# Altium integrated library Analog Devices Switches and Multiplexers Analog Switches.IntLib: 575 symbols (part 2 of 23)
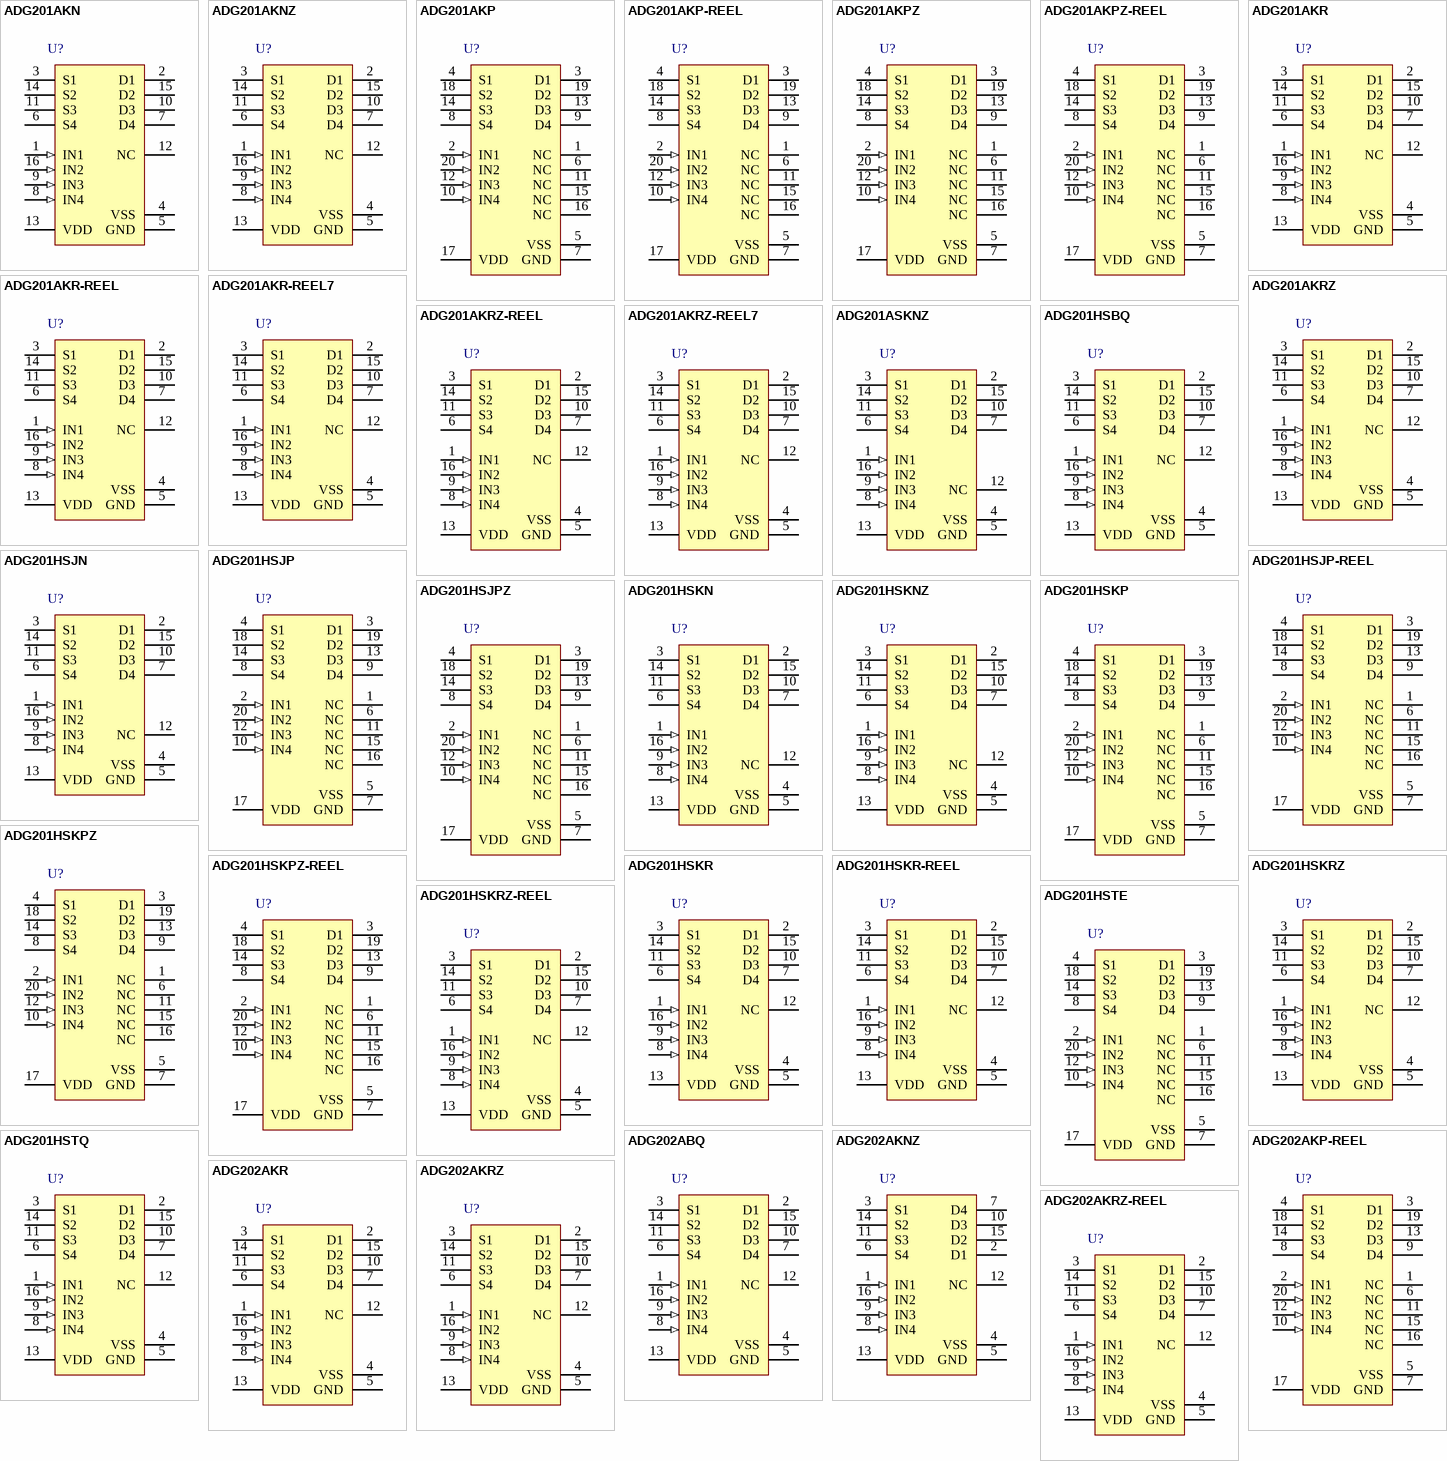
[diagram p16: symbols ADG201AKN to ADG202AKRZ-REEL]

## ADG201AKP-REEL
designator U?
LC2MOS Quad SPST Switches, 60 Ohm Ron, 20-pin LCC (P-20A), Reel; Manufacturer: Analog Devices; PartNumber: ADG201AKP-REEL; # Sw Functions: 4; Max Neg Supply: -15V; Max Pos Supply: +15V; Ron (ohms): 60; DatasheetVersion: Rev. A; PackageVersion: Nov-02; PackageReference: P-20A; PackageDescription: 20-Pin Plastic Leaded Chip Carrier, Body 8.97 x 8.97 mm, Pitch 1.27 mm; Configuration: SPST; Packing: Reel; Mounting Technology: Surface Mount; Code_JEDEC: MO-047AA; ComponentLink1Description: Manufacturer URL; ComponentLink1URL: http://www.analog.com/en/index.html; ComponentLink2Description: Datasheet; ComponentLink2URL: http://www.analog.com/static/imported-files/data_sheets/ADG201A_202A.pdf; ComponentLink3Description: Package Specification; ComponentLink3URL: http://www.analog.com/static/imported-files/packages/3121431516544404277643669223804694P20A.pdf
footprint ADI-P-20A_N (PLCC, 20-Leads, Body 8.965x8.965mm, Pitch 1.27mm, IPC Medium Density)
footprint ADI-P-20A_L (PLCC, 20-Leads, Body 8.965x8.965mm, Pitch 1.27mm, IPC High Density)
footprint ADI-P-20A_M (PLCC, 20-Leads, Body 8.965x8.965mm, Pitch 1.27mm, IPC Low Density)
pins: 1 NC, 2 IN1 (in), 3 D1, 4 S1, 5 VSS (power) "Most negative voltage supply", 6 NC, 7 GND (power), 8 S4, 9 D4, 10 IN4 (in), 11 NC, 12 IN3 (in), 13 D3, 14 S3, 15 NC, 16 NC, 17 VDD (power) "Most positive voltage supply", 18 S2, 19 D2, 20 IN2 (in)

## ADG201AKPZ
designator U?
LC2MOS Quad SPST Switches, 60 Ohm Ron, 20-pin LCC (P-20A), Tube; Manufacturer: Analog Devices; PartNumber: ADG201AKPZ; # Sw Functions: 4; Max Neg Supply: -15V; Max Pos Supply: +15V; Ron (ohms): 60; DatasheetVersion: Rev. A; PackageVersion: Nov-02; PackageReference: P-20A; PackageDescription: 20-Pin Plastic Leaded Chip Carrier, Body 8.97 x 8.97 mm, Pitch 1.27 mm; Supplier 1: Digi-Key; Supplier Part Number 1: ADG201AKPZ-ND; Supplier 2: Newark; Supplier Part Number 2: 59K1168; Supplier 3: Mouser; Supplier Part Number 3: 584-ADG201AKPZ; Configuration: SPST; Packing: Tube; Mounting Technology: Surface Mount; Code_JEDEC: MO-047AA; ComponentLink1Description: Manufacturer URL; ComponentLink1URL: http://www.analog.com/en/index.html; ComponentLink2Description: Datasheet; ComponentLink2URL: http://www.analog.com/static/imported-files/data_sheets/ADG201A_202A.pdf; ComponentLink3Description: Package Specification; ComponentLink3URL: http://www.analog.com/static/imported-files/packages/3121431516544404277643669223804694P20A.pdf
footprint ADI-P-20A_N (PLCC, 20-Leads, Body 8.965x8.965mm, Pitch 1.27mm, IPC Medium Density)
footprint ADI-P-20A_L (PLCC, 20-Leads, Body 8.965x8.965mm, Pitch 1.27mm, IPC High Density)
footprint ADI-P-20A_M (PLCC, 20-Leads, Body 8.965x8.965mm, Pitch 1.27mm, IPC Low Density)
pins: 1 NC, 2 IN1 (in), 3 D1, 4 S1, 5 VSS (power) "Most negative voltage supply", 6 NC, 7 GND (power), 8 S4, 9 D4, 10 IN4 (in), 11 NC, 12 IN3 (in), 13 D3, 14 S3, 15 NC, 16 NC, 17 VDD (power) "Most positive voltage supply", 18 S2, 19 D2, 20 IN2 (in)

## ADG201AKPZ-REEL
designator U?
LC2MOS Quad SPST Switches, 60 Ohm Ron, 20-pin LCC (P-20A), Reel; Manufacturer: Analog Devices; PartNumber: ADG201AKPZ-REEL; # Sw Functions: 4; Max Neg Supply: -15V; Max Pos Supply: +15V; Ron (ohms): 60; DatasheetVersion: Rev. A; PackageVersion: Nov-02; PackageReference: P-20A; PackageDescription: 20-Pin Plastic Leaded Chip Carrier, Body 8.97 x 8.97 mm, Pitch 1.27 mm; Supplier 1: Digi-Key; Supplier Part Number 1: ADG201AKPZ-REEL-ND; Supplier 2: Mouser; Supplier Part Number 2: 584-ADG201AKPZ-R; Configuration: SPST; Packing: Reel; Mounting Technology: Surface Mount; Code_JEDEC: MO-047AA; ComponentLink1Description: Manufacturer URL; ComponentLink1URL: http://www.analog.com/en/index.html; ComponentLink2Description: Datasheet; ComponentLink2URL: http://www.analog.com/static/imported-files/data_sheets/ADG201A_202A.pdf; ComponentLink3Description: Package Specification; ComponentLink3URL: http://www.analog.com/static/imported-files/packages/3121431516544404277643669223804694P20A.pdf
footprint ADI-P-20A_N (PLCC, 20-Leads, Body 8.965x8.965mm, Pitch 1.27mm, IPC Medium Density)
footprint ADI-P-20A_L (PLCC, 20-Leads, Body 8.965x8.965mm, Pitch 1.27mm, IPC High Density)
footprint ADI-P-20A_M (PLCC, 20-Leads, Body 8.965x8.965mm, Pitch 1.27mm, IPC Low Density)
pins: 1 NC, 2 IN1 (in), 3 D1, 4 S1, 5 VSS (power) "Most negative voltage supply", 6 NC, 7 GND (power), 8 S4, 9 D4, 10 IN4 (in), 11 NC, 12 IN3 (in), 13 D3, 14 S3, 15 NC, 16 NC, 17 VDD (power) "Most positive voltage supply", 18 S2, 19 D2, 20 IN2 (in)

## ADG201AKR
designator U?
LC2MOS Quad SPST Switches, 60 Ohm Ron, 16-pin SOIC (R-16), Tube; Manufacturer: Analog Devices; PartNumber: ADG201AKR; # Sw Functions: 4; Max Neg Supply: -15V; Max Pos Supply: +15V; Ron (ohms): 60; DatasheetVersion: Rev. A; PackageVersion: 060606-A, 06/2006; PackageReference: R-16; PackageDescription: 16-Pin Standard Small Outline Package, Body 9.9 x 3.9 mm, Pitch 1.27 mm; Supplier 1: Digi-Key; Supplier Part Number 1: ADG201AKR-ND; Supplier 2: Mouser; Supplier Part Number 2: 584-ADG201AKR; Configuration: SPST; Packing: Tube; Mounting Technology: Surface Mount; Code_JEDEC: MS-012-AC; ComponentLink1Description: Manufacturer URL; ComponentLink1URL: http://www.analog.com/en/index.html; ComponentLink2Description: Datasheet; ComponentLink2URL: http://www.analog.com/static/imported-files/data_sheets/ADG201A_202A.pdf; ComponentLink3Description: Package Specification; ComponentLink3URL: http://www.analog.com/static/imported-files/packages/PKG_PDF/SOIC_Narrow%20(R)/R_16.pdf
footprint ADI-R-16_N (SOIC, 16-Leads, Body 9.9x3.9mm, Pitch 1.27mm, IPC Medium Density)
footprint ADI-R-16_L (SOIC, 16-Leads, Body 9.9x3.9mm, Pitch 1.27mm, IPC High Density)
footprint ADI-R-16_M (SOIC, 16-Leads, Body 9.9x3.9mm, Pitch 1.27mm, IPC Low Density)
pins: 1 IN1 (in), 2 D1, 3 S1, 4 VSS (power), 5 GND (power), 6 S4, 7 D4, 8 IN4 (in), 9 IN3 (in), 10 D3, 11 S3, 12 NC, 13 VDD (power), 14 S2, 15 D2, 16 IN2 (in)

## ADG201AKR-REEL
designator U?
LC2MOS Quad SPST Switches, 60 Ohm Ron, 16-pin SOIC (R-16), Reel; Manufacturer: Analog Devices; PartNumber: ADG201AKR-REEL; # Sw Functions: 4; Max Neg Supply: -15V; Max Pos Supply: +15V; Ron (ohms): 60; DatasheetVersion: Rev. A; PackageVersion: 060606-A, 06/2006; PackageReference: R-16; PackageDescription: 16-Pin Standard Small Outline Package, Body 9.9 x 3.9 mm, Pitch 1.27 mm; Supplier 1: Digi-Key; Supplier Part Number 1: ADG201AKR-REEL-ND; Supplier 2: Newark; Supplier Part Number 2: 09B6995; Supplier 3: Mouser; Supplier Part Number 3: 584-ADG201AKR-R; Configuration: SPST; Packing: Reel; Mounting Technology: Surface Mount; Code_JEDEC: MS-012-AC; ComponentLink1Description: Manufacturer URL; ComponentLink1URL: http://www.analog.com/en/index.html; ComponentLink2Description: Datasheet; ComponentLink2URL: http://www.analog.com/static/imported-files/data_sheets/ADG201A_202A.pdf; ComponentLink3Description: Package Specification; ComponentLink3URL: http://www.analog.com/static/imported-files/packages/PKG_PDF/SOIC_Narrow%20(R)/R_16.pdf
footprint ADI-R-16_N (SOIC, 16-Leads, Body 9.9x3.9mm, Pitch 1.27mm, IPC Medium Density)
footprint ADI-R-16_L (SOIC, 16-Leads, Body 9.9x3.9mm, Pitch 1.27mm, IPC High Density)
footprint ADI-R-16_M (SOIC, 16-Leads, Body 9.9x3.9mm, Pitch 1.27mm, IPC Low Density)
pins: 1 IN1 (in), 2 D1, 3 S1, 4 VSS (power), 5 GND (power), 6 S4, 7 D4, 8 IN4 (in), 9 IN3 (in), 10 D3, 11 S3, 12 NC, 13 VDD (power), 14 S2, 15 D2, 16 IN2 (in)

## ADG201AKR-REEL7
designator U?
LC2MOS Quad SPST Switches, 60 Ohm Ron, 16-pin SOIC (R-16), Reel; Manufacturer: Analog Devices; PartNumber: ADG201AKR-REEL7; # Sw Functions: 4; Max Neg Supply: -15V; Max Pos Supply: +15V; Ron (ohms): 60; DatasheetVersion: Rev. A; PackageVersion: 060606-A, 06/2006; PackageReference: R-16; PackageDescription: 16-Pin Standard Small Outline Package, Body 9.9 x 3.9 mm, Pitch 1.27 mm; Supplier 1: Digi-Key; Supplier Part Number 1: ADG201AKR-REEL7-ND; Supplier 2: Newark; Supplier Part Number 2: 09B6996; Supplier 3: Mouser; Supplier Part Number 3: 584-ADG201AKR-R7; Configuration: SPST; Packing: Reel; Mounting Technology: Surface Mount; Code_JEDEC: MS-012-AC; ComponentLink1Description: Manufacturer URL; ComponentLink1URL: http://www.analog.com/en/index.html; ComponentLink2Description: Datasheet; ComponentLink2URL: http://www.analog.com/static/imported-files/data_sheets/ADG201A_202A.pdf; ComponentLink3Description: Package Specification; ComponentLink3URL: http://www.analog.com/static/imported-files/packages/PKG_PDF/SOIC_Narrow%20(R)/R_16.pdf
footprint ADI-R-16_N (SOIC, 16-Leads, Body 9.9x3.9mm, Pitch 1.27mm, IPC Medium Density)
footprint ADI-R-16_L (SOIC, 16-Leads, Body 9.9x3.9mm, Pitch 1.27mm, IPC High Density)
footprint ADI-R-16_M (SOIC, 16-Leads, Body 9.9x3.9mm, Pitch 1.27mm, IPC Low Density)
pins: 1 IN1 (in), 2 D1, 3 S1, 4 VSS (power), 5 GND (power), 6 S4, 7 D4, 8 IN4 (in), 9 IN3 (in), 10 D3, 11 S3, 12 NC, 13 VDD (power), 14 S2, 15 D2, 16 IN2 (in)

## ADG201AKRZ
designator U?
LC2MOS Quad SPST Switches, 60 Ohm Ron, 16-pin SOIC (R-16), Tube; Manufacturer: Analog Devices; PartNumber: ADG201AKRZ; # Sw Functions: 4; Max Neg Supply: -15V; Max Pos Supply: +15V; Ron (ohms): 60; DatasheetVersion: Rev. A; PackageVersion: 060606-A, 06/2006; PackageReference: R-16; PackageDescription: 16-Pin Standard Small Outline Package, Body 9.9 x 3.9 mm, Pitch 1.27 mm; Supplier 1: Digi-Key; Supplier Part Number 1: ADG201AKRZ-ND; Supplier 2: Farnell; Supplier Part Number 2: 1661015; Supplier 3: Newark; Supplier Part Number 3: 19M8642; Supplier 4: Mouser; Supplier Part Number 4: 584-ADG201AKRZ; Configuration: SPST; Packing: Tube; Mounting Technology: Surface Mount; Code_JEDEC: MS-012-AC; ComponentLink1Description: Manufacturer URL; ComponentLink1URL: http://www.analog.com/en/index.html; ComponentLink2Description: Datasheet; ComponentLink2URL: http://www.analog.com/static/imported-files/data_sheets/ADG201A_202A.pdf; ComponentLink3Description: Package Specification; ComponentLink3URL: http://www.analog.com/static/imported-files/packages/PKG_PDF/SOIC_Narrow%20(R)/R_16.pdf
footprint ADI-R-16_N (SOIC, 16-Leads, Body 9.9x3.9mm, Pitch 1.27mm, IPC Medium Density)
footprint ADI-R-16_L (SOIC, 16-Leads, Body 9.9x3.9mm, Pitch 1.27mm, IPC High Density)
footprint ADI-R-16_M (SOIC, 16-Leads, Body 9.9x3.9mm, Pitch 1.27mm, IPC Low Density)
pins: 1 IN1 (in), 2 D1, 3 S1, 4 VSS (power), 5 GND (power), 6 S4, 7 D4, 8 IN4 (in), 9 IN3 (in), 10 D3, 11 S3, 12 NC, 13 VDD (power), 14 S2, 15 D2, 16 IN2 (in)

## ADG201AKRZ-REEL
designator U?
LC2MOS Quad SPST Switches, 60 Ohm Ron, 16-pin SOIC (R-16), Reel; Manufacturer: Analog Devices; PartNumber: ADG201AKRZ-REEL; # Sw Functions: 4; Max Neg Supply: -15V; Max Pos Supply: +15V; Ron (ohms): 60; DatasheetVersion: Rev. A; PackageVersion: 060606-A, 06/2006; PackageReference: R-16; PackageDescription: 16-Pin Standard Small Outline Package, Body 9.9 x 3.9 mm, Pitch 1.27 mm; Supplier 1: Digi-Key; Supplier Part Number 1: ADG201AKRZ-REEL-ND; Supplier 2: Mouser; Supplier Part Number 2: 584-ADG201AKRZ-R; Configuration: SPST; Packing: Reel; Mounting Technology: Surface Mount; Code_JEDEC: MS-012-AC; ComponentLink1Description: Manufacturer URL; ComponentLink1URL: http://www.analog.com/en/index.html; ComponentLink2Description: Datasheet; ComponentLink2URL: http://www.analog.com/static/imported-files/data_sheets/ADG201A_202A.pdf; ComponentLink3Description: Package Specification; ComponentLink3URL: http://www.analog.com/static/imported-files/packages/PKG_PDF/SOIC_Narrow%20(R)/R_16.pdf
footprint ADI-R-16_N (SOIC, 16-Leads, Body 9.9x3.9mm, Pitch 1.27mm, IPC Medium Density)
footprint ADI-R-16_L (SOIC, 16-Leads, Body 9.9x3.9mm, Pitch 1.27mm, IPC High Density)
footprint ADI-R-16_M (SOIC, 16-Leads, Body 9.9x3.9mm, Pitch 1.27mm, IPC Low Density)
pins: 1 IN1 (in), 2 D1, 3 S1, 4 VSS (power), 5 GND (power), 6 S4, 7 D4, 8 IN4 (in), 9 IN3 (in), 10 D3, 11 S3, 12 NC, 13 VDD (power), 14 S2, 15 D2, 16 IN2 (in)

## ADG201AKRZ-REEL7
designator U?
LC2MOS Quad SPST Switches, 60 Ohm Ron, 16-pin SOIC (R-16), Reel; Manufacturer: Analog Devices; PartNumber: ADG201AKRZ-REEL7; # Sw Functions: 4; Max Neg Supply: -15V; Max Pos Supply: +15V; Ron (ohms): 60; DatasheetVersion: Rev. A; PackageVersion: 060606-A, 06/2006; PackageReference: R-16; PackageDescription: 16-Pin Standard Small Outline Package, Body 9.9 x 3.9 mm, Pitch 1.27 mm; Supplier 1: Digi-Key; Supplier Part Number 1: ADG201AKRZ-REEL7-ND; Supplier 2: Mouser; Supplier Part Number 2: 584-ADG201AKRZ-R7; Configuration: SPST; Packing: Reel; Mounting Technology: Surface Mount; Code_JEDEC: MS-012-AC; ComponentLink1Description: Manufacturer URL; ComponentLink1URL: http://www.analog.com/en/index.html; ComponentLink2Description: Datasheet; ComponentLink2URL: http://www.analog.com/static/imported-files/data_sheets/ADG201A_202A.pdf; ComponentLink3Description: Package Specification; ComponentLink3URL: http://www.analog.com/static/imported-files/packages/PKG_PDF/SOIC_Narrow%20(R)/R_16.pdf
footprint ADI-R-16_N (SOIC, 16-Leads, Body 9.9x3.9mm, Pitch 1.27mm, IPC Medium Density)
footprint ADI-R-16_L (SOIC, 16-Leads, Body 9.9x3.9mm, Pitch 1.27mm, IPC High Density)
footprint ADI-R-16_M (SOIC, 16-Leads, Body 9.9x3.9mm, Pitch 1.27mm, IPC Low Density)
pins: 1 IN1 (in), 2 D1, 3 S1, 4 VSS (power), 5 GND (power), 6 S4, 7 D4, 8 IN4 (in), 9 IN3 (in), 10 D3, 11 S3, 12 NC, 13 VDD (power), 14 S2, 15 D2, 16 IN2 (in)

## ADG201ASKNZ
designator U?
LC2MOS High Speed, Quad SPST Switches, 30 Ohm Ron, 16-pin DIP (N-16), Tube; Manufacturer: Analog Devices; PartNumber: ADG201ASKNZ; # Sw Functions: 4; Max Neg Supply: -16.5V; Max Pos Supply: +16.5V; Ron (ohms): 30, 65; DatasheetVersion: Rev. B; PackageVersion: 070706-A, 07/2006; PackageReference: N-16; PackageDescription: 16-Pin Plastic Dual In-Line Package, Row spacing 7.62 mm, Pitch 2.54 mm; Supplier 1: Mouser; Supplier Part Number 1: N/A; Configuration: SPST; Packing: Tube; Mounting Technology: Through Hole; Code_JEDEC: MS-001; ComponentLink1Description: Manufacturer URL; ComponentLink1URL: http://www.analog.com/en/index.html; ComponentLink2Description: Datasheet; ComponentLink2URL: http://www.analog.com/static/imported-files/data_sheets/ADG201HS.pdf; ComponentLink3Description: Package Specification; ComponentLink3URL: http://www.analog.com/static/imported-files/packages/44768431550332N_16.pdf
footprint ADI-N-16 (DIP, 16-Leads, Body 20.07x6.6mm, Pitch 2.54mm)
pins: 1 IN1 (in), 2 D1, 3 S1, 4 VSS (power), 5 GND (power), 6 S4, 7 D4, 8 IN4 (in), 9 IN3 (in), 10 D3, 11 S3, 12 NC, 13 VDD (power), 14 S2, 15 D2, 16 IN2 (in)

## ADG201HSBQ
designator U?
LC2MOS High Speed, Quad SPST Switches, 30 Ohm Ron, 16-pin DIP (Q-16), Tube; Manufacturer: Analog Devices; PartNumber: ADG201HSBQ; # Sw Functions: 4; Max Neg Supply: -16.5V; Max Pos Supply: +16.5V; Ron (ohms): 30, 65; DatasheetVersion: Rev. B; PackageVersion: Aug-05; PackageReference: Q-16; PackageDescription: 16-Pin Ceramic Dual In-Line Package, Row spacing 7.62 mm, Pitch 2.54 mm; Supplier 1: Digi-Key; Supplier Part Number 1: ADG201HSBQ-ND; Supplier 2: Newark; Supplier Part Number 2: 05F6162; Supplier 3: Mouser; Supplier Part Number 3: 584-ADG201HSBQ; Configuration: SPST; Packing: Tube; Mounting Technology: Through Hole; ComponentLink1Description: Manufacturer URL; ComponentLink1URL: http://www.analog.com/en/index.html; ComponentLink2Description: Datasheet; ComponentLink2URL: http://www.analog.com/static/imported-files/data_sheets/ADG201HS.pdf; ComponentLink3Description: Package Specification; ComponentLink3URL: http://www.analog.com/static/imported-files/packages/54083157002221Q_16.pdf
footprint ADI-Q-16 (DIP, 16-Leads, Body 21.34x6.73mm, Pitch 2.54mm)
pins: 1 IN1 (in), 2 D1, 3 S1, 4 VSS (power), 5 GND (power), 6 S4, 7 D4, 8 IN4 (in), 9 IN3 (in), 10 D3, 11 S3, 12 NC, 13 VDD (power), 14 S2, 15 D2, 16 IN2 (in)

## ADG201HSJN
designator U?
LC2MOS High Speed, Quad SPST Switches, 30 Ohm Ron, 16-pin DIP (N-16), Tube; Manufacturer: Analog Devices; PartNumber: ADG201HSJN; # Sw Functions: 4; Max Neg Supply: -16.5V; Max Pos Supply: +16.5V; Ron (ohms): 30, 65; DatasheetVersion: Rev. B; PackageVersion: 070706-A, 07/2006; PackageReference: N-16; PackageDescription: 16-Pin Plastic Dual In-Line Package, Row spacing 7.62 mm, Pitch 2.54 mm; Supplier 1: Digi-Key; Supplier Part Number 1: ADG201HSJN-ND; Supplier 2: Mouser; Supplier Part Number 2: 584-ADG201HSJN; Configuration: SPST; Packing: Tube; Mounting Technology: Through Hole; Code_JEDEC: MS-001; ComponentLink1Description: Manufacturer URL; ComponentLink1URL: http://www.analog.com/en/index.html; ComponentLink2Description: Datasheet; ComponentLink2URL: http://www.analog.com/static/imported-files/data_sheets/ADG201HS.pdf; ComponentLink3Description: Package Specification; ComponentLink3URL: http://www.analog.com/static/imported-files/packages/44768431550332N_16.pdf
footprint ADI-N-16 (DIP, 16-Leads, Body 20.07x6.6mm, Pitch 2.54mm)
pins: 1 IN1 (in), 2 D1, 3 S1, 4 VSS (power), 5 GND (power), 6 S4, 7 D4, 8 IN4 (in), 9 IN3 (in), 10 D3, 11 S3, 12 NC, 13 VDD (power), 14 S2, 15 D2, 16 IN2 (in)

## ADG201HSJP
designator U?
LC2MOS High Speed, Quad SPST Switches, 30 Ohm Ron, 20-pin LCC (P-20A), Tube; Manufacturer: Analog Devices; PartNumber: ADG201HSJP; # Sw Functions: 4; Max Neg Supply: -16.5V; Max Pos Supply: +16.5V; Ron (ohms): 30, 65; DatasheetVersion: Rev. B; PackageVersion: Nov-02; PackageReference: P-20A; PackageDescription: 20-Pin Plastic Leaded Chip Carrier, Body 8.97 x 8.97 mm, Pitch 1.27 mm; Supplier 1: Digi-Key; Supplier Part Number 1: ADG201HSJP-ND; Supplier 2: Mouser; Supplier Part Number 2: 584-ADG201HSJP; Configuration: SPST; Packing: Tube; Mounting Technology: Surface Mount; Code_JEDEC: MO-047AA; ComponentLink1Description: Manufacturer URL; ComponentLink1URL: http://www.analog.com/en/index.html; ComponentLink2Description: Datasheet; ComponentLink2URL: http://www.analog.com/static/imported-files/data_sheets/ADG201HS.pdf; ComponentLink3Description: Package Specification; ComponentLink3URL: http://www.analog.com/static/imported-files/packages/3121431516544404277643669223804694P20A.pdf
footprint ADI-P-20A_N (PLCC, 20-Leads, Body 8.965x8.965mm, Pitch 1.27mm, IPC Medium Density)
footprint ADI-P-20A_L (PLCC, 20-Leads, Body 8.965x8.965mm, Pitch 1.27mm, IPC High Density)
footprint ADI-P-20A_M (PLCC, 20-Leads, Body 8.965x8.965mm, Pitch 1.27mm, IPC Low Density)
pins: 1 NC, 2 IN1 (in), 3 D1, 4 S1, 5 VSS (power), 6 NC, 7 GND (power), 8 S4, 9 D4, 10 IN4 (in), 11 NC, 12 IN3 (in), 13 D3, 14 S3, 15 NC, 16 NC, 17 VDD (power), 18 S2, 19 D2, 20 IN2 (in)

## ADG201HSJP-REEL
designator U?
LC2MOS High Speed, Quad SPST Switches, 30 Ohm Ron, 20-pin LCC (P-20A), Reel; Manufacturer: Analog Devices; PartNumber: ADG201HSJP-REEL; # Sw Functions: 4; Max Neg Supply: -16.5V; Max Pos Supply: +16.5V; Ron (ohms): 30, 65; DatasheetVersion: Rev. B; PackageVersion: Nov-02; PackageReference: P-20A; PackageDescription: 20-Pin Plastic Leaded Chip Carrier, Body 8.97 x 8.97 mm, Pitch 1.27 mm; Supplier 1: Mouser; Supplier Part Number 1: N/A; Configuration: SPST; Packing: Reel; Mounting Technology: Surface Mount; Code_JEDEC: MO-047AA; ComponentLink1Description: Manufacturer URL; ComponentLink1URL: http://www.analog.com/en/index.html; ComponentLink2Description: Datasheet; ComponentLink2URL: http://www.analog.com/static/imported-files/data_sheets/ADG201HS.pdf; ComponentLink3Description: Package Specification; ComponentLink3URL: http://www.analog.com/static/imported-files/packages/3121431516544404277643669223804694P20A.pdf
footprint ADI-P-20A_N (PLCC, 20-Leads, Body 8.965x8.965mm, Pitch 1.27mm, IPC Medium Density)
footprint ADI-P-20A_L (PLCC, 20-Leads, Body 8.965x8.965mm, Pitch 1.27mm, IPC High Density)
footprint ADI-P-20A_M (PLCC, 20-Leads, Body 8.965x8.965mm, Pitch 1.27mm, IPC Low Density)
pins: 1 NC, 2 IN1 (in), 3 D1, 4 S1, 5 VSS (power), 6 NC, 7 GND (power), 8 S4, 9 D4, 10 IN4 (in), 11 NC, 12 IN3 (in), 13 D3, 14 S3, 15 NC, 16 NC, 17 VDD (power), 18 S2, 19 D2, 20 IN2 (in)

## ADG201HSJPZ
designator U?
LC2MOS High Speed, Quad SPST Switches, 30 Ohm Ron, 20-pin LCC (P-20A), Tube; Manufacturer: Analog Devices; PartNumber: ADG201HSJPZ; # Sw Functions: 4; Max Neg Supply: -16.5V; Max Pos Supply: +16.5V; Ron (ohms): 30, 65; DatasheetVersion: Rev. B; PackageVersion: Nov-02; PackageReference: P-20A; PackageDescription: 20-Pin Plastic Leaded Chip Carrier, Body 8.97 x 8.97 mm, Pitch 1.27 mm; Supplier 1: Digi-Key; Supplier Part Number 1: ADG201HSJPZ-ND; Supplier 2: Mouser; Supplier Part Number 2: 584-ADG201HSJPZ; Configuration: SPST; Packing: Tube; Mounting Technology: Surface Mount; Code_JEDEC: MO-047AA; ComponentLink1Description: Manufacturer URL; ComponentLink1URL: http://www.analog.com/en/index.html; ComponentLink2Description: Datasheet; ComponentLink2URL: http://www.analog.com/static/imported-files/data_sheets/ADG201HS.pdf; ComponentLink3Description: Package Specification; ComponentLink3URL: http://www.analog.com/static/imported-files/packages/3121431516544404277643669223804694P20A.pdf
footprint ADI-P-20A_N (PLCC, 20-Leads, Body 8.965x8.965mm, Pitch 1.27mm, IPC Medium Density)
footprint ADI-P-20A_L (PLCC, 20-Leads, Body 8.965x8.965mm, Pitch 1.27mm, IPC High Density)
footprint ADI-P-20A_M (PLCC, 20-Leads, Body 8.965x8.965mm, Pitch 1.27mm, IPC Low Density)
pins: 1 NC, 2 IN1 (in), 3 D1, 4 S1, 5 VSS (power), 6 NC, 7 GND (power), 8 S4, 9 D4, 10 IN4 (in), 11 NC, 12 IN3 (in), 13 D3, 14 S3, 15 NC, 16 NC, 17 VDD (power), 18 S2, 19 D2, 20 IN2 (in)

## ADG201HSKN
designator U?
LC2MOS High Speed, Quad SPST Switches, 30 Ohm Ron, 16-pin DIP (N-16), Tube; Manufacturer: Analog Devices; PartNumber: ADG201HSKN; # Sw Functions: 4; Max Neg Supply: -16.5V; Max Pos Supply: +16.5V; Ron (ohms): 30, 65; DatasheetVersion: Rev. B; PackageVersion: 070706-A, 07/2006; PackageReference: N-16; PackageDescription: 16-Pin Plastic Dual In-Line Package, Row spacing 7.62 mm, Pitch 2.54 mm; Supplier 1: Digi-Key; Supplier Part Number 1: ADG201HSKN-ND; Configuration: SPST; Packing: Tube; Mounting Technology: Through Hole; Code_JEDEC: MS-001; ComponentLink1Description: Manufacturer URL; ComponentLink1URL: http://www.analog.com/en/index.html; ComponentLink2Description: Datasheet; ComponentLink2URL: http://www.analog.com/static/imported-files/data_sheets/ADG201HS.pdf; ComponentLink3Description: Package Specification; ComponentLink3URL: http://www.analog.com/static/imported-files/packages/44768431550332N_16.pdf
footprint ADI-N-16 (DIP, 16-Leads, Body 20.07x6.6mm, Pitch 2.54mm)
pins: 1 IN1 (in), 2 D1, 3 S1, 4 VSS (power), 5 GND (power), 6 S4, 7 D4, 8 IN4 (in), 9 IN3 (in), 10 D3, 11 S3, 12 NC, 13 VDD (power), 14 S2, 15 D2, 16 IN2 (in)

## ADG201HSKNZ
designator U?
LC2MOS High Speed, Quad SPST Switches, 30 Ohm Ron, 16-pin DIP (N-16), Tube; Manufacturer: Analog Devices; PartNumber: ADG201HSKNZ; # Sw Functions: 4; Max Neg Supply: -16.5V; Max Pos Supply: +16.5V; Ron (ohms): 30, 65; DatasheetVersion: Rev. B; PackageVersion: 070706-A, 07/2006; PackageReference: N-16; PackageDescription: 16-Pin Plastic Dual In-Line Package, Row spacing 7.62 mm, Pitch 2.54 mm; Supplier 1: Digi-Key; Supplier Part Number 1: ADG201HSKNZ-ND; Supplier 2: Newark; Supplier Part Number 2: 12M7762; Supplier 3: Mouser; Supplier Part Number 3: 584-ADG201HSKNZ; Configuration: SPST; Packing: Tube; Mounting Technology: Through Hole; Code_JEDEC: MS-001; ComponentLink1Description: Manufacturer URL; ComponentLink1URL: http://www.analog.com/en/index.html; ComponentLink2Description: Datasheet; ComponentLink2URL: http://www.analog.com/static/imported-files/data_sheets/ADG201HS.pdf; ComponentLink3Description: Package Specification; ComponentLink3URL: http://www.analog.com/static/imported-files/packages/44768431550332N_16.pdf
footprint ADI-N-16 (DIP, 16-Leads, Body 20.07x6.6mm, Pitch 2.54mm)
pins: 1 IN1 (in), 2 D1, 3 S1, 4 VSS (power), 5 GND (power), 6 S4, 7 D4, 8 IN4 (in), 9 IN3 (in), 10 D3, 11 S3, 12 NC, 13 VDD (power), 14 S2, 15 D2, 16 IN2 (in)

## ADG201HSKP
designator U?
LC2MOS High Speed, Quad SPST Switches, 30 Ohm Ron, 20-pin LCC (P-20A), Tube; Manufacturer: Analog Devices; PartNumber: ADG201HSKP; # Sw Functions: 4; Max Neg Supply: -16.5V; Max Pos Supply: +16.5V; Ron (ohms): 30, 65; DatasheetVersion: Rev. B; PackageVersion: Nov-02; PackageReference: P-20A; PackageDescription: 20-Pin Plastic Leaded Chip Carrier, Body 8.97 x 8.97 mm, Pitch 1.27 mm; Supplier 1: Digi-Key; Supplier Part Number 1: ADG201HSKP-ND; Configuration: SPST; Packing: Tube; Mounting Technology: Surface Mount; Code_JEDEC: MO-047AA; ComponentLink1Description: Manufacturer URL; ComponentLink1URL: http://www.analog.com/en/index.html; ComponentLink2Description: Datasheet; ComponentLink2URL: http://www.analog.com/static/imported-files/data_sheets/ADG201HS.pdf; ComponentLink3Description: Package Specification; ComponentLink3URL: http://www.analog.com/static/imported-files/packages/3121431516544404277643669223804694P20A.pdf
footprint ADI-P-20A_N (PLCC, 20-Leads, Body 8.965x8.965mm, Pitch 1.27mm, IPC Medium Density)
footprint ADI-P-20A_L (PLCC, 20-Leads, Body 8.965x8.965mm, Pitch 1.27mm, IPC High Density)
footprint ADI-P-20A_M (PLCC, 20-Leads, Body 8.965x8.965mm, Pitch 1.27mm, IPC Low Density)
pins: 1 NC, 2 IN1 (in), 3 D1, 4 S1, 5 VSS (power), 6 NC, 7 GND (power), 8 S4, 9 D4, 10 IN4 (in), 11 NC, 12 IN3 (in), 13 D3, 14 S3, 15 NC, 16 NC, 17 VDD (power), 18 S2, 19 D2, 20 IN2 (in)

## ADG201HSKPZ
designator U?
LC2MOS High Speed, Quad SPST Switches, 30 Ohm Ron, 20-pin LCC (P-20A), Tube; Manufacturer: Analog Devices; PartNumber: ADG201HSKPZ; # Sw Functions: 4; Max Neg Supply: -16.5V; Max Pos Supply: +16.5V; Ron (ohms): 30, 65; DatasheetVersion: Rev. B; PackageVersion: Nov-02; PackageReference: P-20A; PackageDescription: 20-Pin Plastic Leaded Chip Carrier, Body 8.97 x 8.97 mm, Pitch 1.27 mm; Supplier 1: Digi-Key; Supplier Part Number 1: ADG201HSKPZ-ND; Supplier 2: Newark; Supplier Part Number 2: 59K1175; Supplier 3: Mouser; Supplier Part Number 3: 584-ADG201HSKPZ; Configuration: SPST; Packing: Tube; Mounting Technology: Surface Mount; Code_JEDEC: MO-047AA; ComponentLink1Description: Manufacturer URL; ComponentLink1URL: http://www.analog.com/en/index.html; ComponentLink2Description: Datasheet; ComponentLink2URL: http://www.analog.com/static/imported-files/data_sheets/ADG201HS.pdf; ComponentLink3Description: Package Specification; ComponentLink3URL: http://www.analog.com/static/imported-files/packages/3121431516544404277643669223804694P20A.pdf
footprint ADI-P-20A_N (PLCC, 20-Leads, Body 8.965x8.965mm, Pitch 1.27mm, IPC Medium Density)
footprint ADI-P-20A_L (PLCC, 20-Leads, Body 8.965x8.965mm, Pitch 1.27mm, IPC High Density)
footprint ADI-P-20A_M (PLCC, 20-Leads, Body 8.965x8.965mm, Pitch 1.27mm, IPC Low Density)
pins: 1 NC, 2 IN1 (in), 3 D1, 4 S1, 5 VSS (power), 6 NC, 7 GND (power), 8 S4, 9 D4, 10 IN4 (in), 11 NC, 12 IN3 (in), 13 D3, 14 S3, 15 NC, 16 NC, 17 VDD (power), 18 S2, 19 D2, 20 IN2 (in)

## ADG201HSKPZ-REEL
designator U?
LC2MOS High Speed, Quad SPST Switches, 30 Ohm Ron, 20-pin LCC (P-20A), Reel; Manufacturer: Analog Devices; PartNumber: ADG201HSKPZ-REEL; # Sw Functions: 4; Max Neg Supply: -16.5V; Max Pos Supply: +16.5V; Ron (ohms): 30, 65; DatasheetVersion: Rev. B; PackageVersion: Nov-02; PackageReference: P-20A; PackageDescription: 20-Pin Plastic Leaded Chip Carrier, Body 8.97 x 8.97 mm, Pitch 1.27 mm; Supplier 1: Digi-Key; Supplier Part Number 1: ADG201HSKPZ-REEL-ND; Supplier 2: Mouser; Supplier Part Number 2: 584-ADG201HSKPZ-R; Configuration: SPST; Packing: Reel; Mounting Technology: Surface Mount; Code_JEDEC: MO-047AA; ComponentLink1Description: Manufacturer URL; ComponentLink1URL: http://www.analog.com/en/index.html; ComponentLink2Description: Datasheet; ComponentLink2URL: http://www.analog.com/static/imported-files/data_sheets/ADG201HS.pdf; ComponentLink3Description: Package Specification; ComponentLink3URL: http://www.analog.com/static/imported-files/packages/3121431516544404277643669223804694P20A.pdf
footprint ADI-P-20A_N (PLCC, 20-Leads, Body 8.965x8.965mm, Pitch 1.27mm, IPC Medium Density)
footprint ADI-P-20A_L (PLCC, 20-Leads, Body 8.965x8.965mm, Pitch 1.27mm, IPC High Density)
footprint ADI-P-20A_M (PLCC, 20-Leads, Body 8.965x8.965mm, Pitch 1.27mm, IPC Low Density)
pins: 1 NC, 2 IN1 (in), 3 D1, 4 S1, 5 VSS (power), 6 NC, 7 GND (power), 8 S4, 9 D4, 10 IN4 (in), 11 NC, 12 IN3 (in), 13 D3, 14 S3, 15 NC, 16 NC, 17 VDD (power), 18 S2, 19 D2, 20 IN2 (in)

## ADG201HSKR
designator U?
LC2MOS High Speed, Quad SPST Switches, 30 Ohm Ron, 16-pin SOIC (R-16), Tube; Manufacturer: Analog Devices; PartNumber: ADG201HSKR; # Sw Functions: 4; Max Neg Supply: -16.5V; Max Pos Supply: +16.5V; Ron (ohms): 30, 65; DatasheetVersion: Rev. B; PackageVersion: 060606-A, 06/2006; PackageReference: R-16; PackageDescription: 16-Pin Standard Small Outline Package, Body 9.9 x 3.9 mm, Pitch 1.27 mm; Supplier 1: Digi-Key; Supplier Part Number 1: ADG201HSKR-ND; Supplier 2: Mouser; Supplier Part Number 2: 584-ADG201HSKR; Configuration: SPST; Packing: Tube; Mounting Technology: Surface Mount; Code_JEDEC: MS-012-AC; ComponentLink1Description: Manufacturer URL; ComponentLink1URL: http://www.analog.com/en/index.html; ComponentLink2Description: Datasheet; ComponentLink2URL: http://www.analog.com/static/imported-files/data_sheets/ADG201HS.pdf; ComponentLink3Description: Package Specification; ComponentLink3URL: http://www.analog.com/static/imported-files/packages/PKG_PDF/SOIC_Narrow%20(R)/R_16.pdf
footprint ADI-R-16_N (SOIC, 16-Leads, Body 9.9x3.9mm, Pitch 1.27mm, IPC Medium Density)
footprint ADI-R-16_L (SOIC, 16-Leads, Body 9.9x3.9mm, Pitch 1.27mm, IPC High Density)
footprint ADI-R-16_M (SOIC, 16-Leads, Body 9.9x3.9mm, Pitch 1.27mm, IPC Low Density)
pins: 1 IN1 (in) "Logic Control Input.", 2 D1 "Drain Terminal. Can be an input or output.", 3 S1 "Source Terminal. Can be an input or output.", 4 VSS (power) "Most Negative Power Supply Potential.", 5 GND (power) "Ground (0 V) Reference.", 6 S4 "Source Terminal. Can be an input or output.", 7 D4 "Drain Terminal. Can be an input or output.", 8 IN4 (in) "Logic Control Input.", 9 IN3 (in) "Logic Control Input.", 10 D3 "Drain Terminal. Can be an input or output.", 11 S3 "Source Terminal. Can be an input or output.", 12 NC "No Connect.", 13 VDD (power) "Most Positive Power Supply Potential.", 14 S2 "Source Terminal. Can be an input or output.", 15 D2 "Drain Terminal. Can be an input or output.", 16 IN2 (in) "Logic Control Input."

## ADG201HSKR-REEL
designator U?
LC2MOS High Speed, Quad SPST Switches, 30 Ohm Ron, 16-pin SOIC (R-16), Reel; Manufacturer: Analog Devices; PartNumber: ADG201HSKR-REEL; # Sw Functions: 4; Max Neg Supply: -16.5V; Max Pos Supply: +16.5V; Ron (ohms): 30, 65; DatasheetVersion: Rev. B; PackageVersion: 060606-A, 06/2006; PackageReference: R-16; PackageDescription: 16-Pin Standard Small Outline Package, Body 9.9 x 3.9 mm, Pitch 1.27 mm; Supplier 1: Digi-Key; Supplier Part Number 1: ADG201HSKR-REEL-ND; Supplier 2: Newark; Supplier Part Number 2: 09B6998; Supplier 3: Mouser; Supplier Part Number 3: 584-ADG201HSKR-R; Configuration: SPST; Packing: Reel; Mounting Technology: Surface Mount; Code_JEDEC: MS-012-AC; ComponentLink1Description: Manufacturer URL; ComponentLink1URL: http://www.analog.com/en/index.html; ComponentLink2Description: Datasheet; ComponentLink2URL: http://www.analog.com/static/imported-files/data_sheets/ADG201HS.pdf; ComponentLink3Description: Package Specification; ComponentLink3URL: http://www.analog.com/static/imported-files/packages/PKG_PDF/SOIC_Narrow%20(R)/R_16.pdf
footprint ADI-R-16_N (SOIC, 16-Leads, Body 9.9x3.9mm, Pitch 1.27mm, IPC Medium Density)
footprint ADI-R-16_L (SOIC, 16-Leads, Body 9.9x3.9mm, Pitch 1.27mm, IPC High Density)
footprint ADI-R-16_M (SOIC, 16-Leads, Body 9.9x3.9mm, Pitch 1.27mm, IPC Low Density)
pins: 1 IN1 (in) "Logic Control Input.", 2 D1 "Drain Terminal. Can be an input or output.", 3 S1 "Source Terminal. Can be an input or output.", 4 VSS (power) "Most Negative Power Supply Potential.", 5 GND (power) "Ground (0 V) Reference.", 6 S4 "Source Terminal. Can be an input or output.", 7 D4 "Drain Terminal. Can be an input or output.", 8 IN4 (in) "Logic Control Input.", 9 IN3 (in) "Logic Control Input.", 10 D3 "Drain Terminal. Can be an input or output.", 11 S3 "Source Terminal. Can be an input or output.", 12 NC "No Connect.", 13 VDD (power) "Most Positive Power Supply Potential.", 14 S2 "Source Terminal. Can be an input or output.", 15 D2 "Drain Terminal. Can be an input or output.", 16 IN2 (in) "Logic Control Input."

## ADG201HSKRZ
designator U?
LC2MOS High Speed, Quad SPST Switches, 30 Ohm Ron, 16-pin SOIC (R-16), Tube; Manufacturer: Analog Devices; PartNumber: ADG201HSKRZ; # Sw Functions: 4; Max Neg Supply: -16.5V; Max Pos Supply: +16.5V; Ron (ohms): 30, 65; DatasheetVersion: Rev. B; PackageVersion: 060606-A, 06/2006; PackageReference: R-16; PackageDescription: 16-Pin Standard Small Outline Package, Body 9.9 x 3.9 mm, Pitch 1.27 mm; Supplier 1: Digi-Key; Supplier Part Number 1: ADG201HSKRZ-ND; Supplier 2: Farnell; Supplier Part Number 2: 2305646; Supplier 3: Newark; Supplier Part Number 3: 84W7342; Supplier 4: Newark; Supplier Part Number 4: 59K1177; Supplier 5: Mouser; Supplier Part Number 5: 584-ADG201HSKRZ; Configuration: SPST; Packing: Tube; Mounting Technology: Surface Mount; Code_JEDEC: MS-012-AC; ComponentLink1Description: Manufacturer URL; ComponentLink1URL: http://www.analog.com/en/index.html; ComponentLink2Description: Datasheet; ComponentLink2URL: http://www.analog.com/static/imported-files/data_sheets/ADG201HS.pdf; ComponentLink3Description: Package Specification; ComponentLink3URL: http://www.analog.com/static/imported-files/packages/PKG_PDF/SOIC_Narrow%20(R)/R_16.pdf
footprint ADI-R-16_N (SOIC, 16-Leads, Body 9.9x3.9mm, Pitch 1.27mm, IPC Medium Density)
footprint ADI-R-16_L (SOIC, 16-Leads, Body 9.9x3.9mm, Pitch 1.27mm, IPC High Density)
footprint ADI-R-16_M (SOIC, 16-Leads, Body 9.9x3.9mm, Pitch 1.27mm, IPC Low Density)
pins: 1 IN1 (in) "Logic Control Input.", 2 D1 "Drain Terminal. Can be an input or output.", 3 S1 "Source Terminal. Can be an input or output.", 4 VSS (power) "Most Negative Power Supply Potential.", 5 GND (power) "Ground (0 V) Reference.", 6 S4 "Source Terminal. Can be an input or output.", 7 D4 "Drain Terminal. Can be an input or output.", 8 IN4 (in) "Logic Control Input.", 9 IN3 (in) "Logic Control Input.", 10 D3 "Drain Terminal. Can be an input or output.", 11 S3 "Source Terminal. Can be an input or output.", 12 NC "No Connect.", 13 VDD (power) "Most Positive Power Supply Potential.", 14 S2 "Source Terminal. Can be an input or output.", 15 D2 "Drain Terminal. Can be an input or output.", 16 IN2 (in) "Logic Control Input."

## ADG201HSKRZ-REEL
designator U?
LC2MOS High Speed, Quad SPST Switches, 30 Ohm Ron, 16-pin SOIC (R-16), Reel; Manufacturer: Analog Devices; PartNumber: ADG201HSKRZ-REEL; # Sw Functions: 4; Max Neg Supply: -16.5V; Max Pos Supply: +16.5V; Ron (ohms): 30, 65; DatasheetVersion: Rev. B; PackageVersion: 060606-A, 06/2006; PackageReference: R-16; PackageDescription: 16-Pin Standard Small Outline Package, Body 9.9 x 3.9 mm, Pitch 1.27 mm; Supplier 1: Digi-Key; Supplier Part Number 1: ADG201HSKRZ-REEL-ND; Supplier 2: Newark; Supplier Part Number 2: 59K1178; Supplier 3: Mouser; Supplier Part Number 3: 584-ADG201HSKRZ-R; Configuration: SPST; Packing: Reel; Mounting Technology: Surface Mount; Code_JEDEC: MS-012-AC; ComponentLink1Description: Manufacturer URL; ComponentLink1URL: http://www.analog.com/en/index.html; ComponentLink2Description: Datasheet; ComponentLink2URL: http://www.analog.com/static/imported-files/data_sheets/ADG201HS.pdf; ComponentLink3Description: Package Specification; ComponentLink3URL: http://www.analog.com/static/imported-files/packages/PKG_PDF/SOIC_Narrow%20(R)/R_16.pdf
footprint ADI-R-16_N (SOIC, 16-Leads, Body 9.9x3.9mm, Pitch 1.27mm, IPC Medium Density)
footprint ADI-R-16_L (SOIC, 16-Leads, Body 9.9x3.9mm, Pitch 1.27mm, IPC High Density)
footprint ADI-R-16_M (SOIC, 16-Leads, Body 9.9x3.9mm, Pitch 1.27mm, IPC Low Density)
pins: 1 IN1 (in) "Logic Control Input.", 2 D1 "Drain Terminal. Can be an input or output.", 3 S1 "Source Terminal. Can be an input or output.", 4 VSS (power) "Most Negative Power Supply Potential.", 5 GND (power) "Ground (0 V) Reference.", 6 S4 "Source Terminal. Can be an input or output.", 7 D4 "Drain Terminal. Can be an input or output.", 8 IN4 (in) "Logic Control Input.", 9 IN3 (in) "Logic Control Input.", 10 D3 "Drain Terminal. Can be an input or output.", 11 S3 "Source Terminal. Can be an input or output.", 12 NC "No Connect.", 13 VDD (power) "Most Positive Power Supply Potential.", 14 S2 "Source Terminal. Can be an input or output.", 15 D2 "Drain Terminal. Can be an input or output.", 16 IN2 (in) "Logic Control Input."

## ADG201HSTE
designator U?
LC2MOS High Speed, Quad SPST Switches, 30 Ohm Ron, 20-pin LCC (E-20A), Tube; Manufacturer: Analog Devices; PartNumber: ADG201HSTE; # Sw Functions: 4; Max Neg Supply: -16.5V; Max Pos Supply: +16.5V; Ron (ohms): 30, 65; DatasheetVersion: Rev. B; PackageVersion: Rev. C, 08/2002; PackageReference: E-20A; PackageDescription: 20-Pin Terminal Ceramic Leadless Chip Carrier, Body 8.89 x 8.89 mm, Pitch 1.27 mm; Supplier 1: Mouser; Supplier Part Number 1: N/A; Configuration: SPST; Packing: Tube; Mounting Technology: Surface Mount; ComponentLink1Description: Manufacturer URL; ComponentLink1URL: http://www.analog.com/en/index.html; ComponentLink2Description: Datasheet; ComponentLink2URL: http://www.analog.com/static/imported-files/data_sheets/ADG201HS.pdf; ComponentLink3Description: Package Specification; ComponentLink3URL: http://www.analog.com/static/imported-files/data_sheets/AD827.pdf
footprint ADI-E-20A_N (LCC, 20-Leads, Body 8.9x8.9mm, Pitch 1.27mm, IPC Medium Density)
footprint ADI-E-20A_L (LCC, 20-Leads, Body 8.9x8.9mm, Pitch 1.27mm, IPC High Density)
footprint ADI-E-20A_M (LCC, 20-Leads, Body 8.9x8.9mm, Pitch 1.27mm, IPC Low Density)
pins: 1 NC, 2 IN1 (in), 3 D1, 4 S1, 5 VSS (power), 6 NC, 7 GND (power), 8 S4, 9 D4, 10 IN4 (in), 11 NC, 12 IN3 (in), 13 D3, 14 S3, 15 NC, 16 NC, 17 VDD (power), 18 S2, 19 D2, 20 IN2 (in)

## ADG201HSTQ
designator U?
LC2MOS High Speed, Quad SPST Switches, 30 Ohm Ron, 16-pin DIP (Q-16), Tube; Manufacturer: Analog Devices; PartNumber: ADG201HSTQ; # Sw Functions: 4; Max Neg Supply: -16.5V; Max Pos Supply: +16.5V; Ron (ohms): 30, 65; DatasheetVersion: Rev. B; PackageVersion: Aug-05; PackageReference: Q-16; PackageDescription: 16-Pin Ceramic Dual In-Line Package, Row spacing 7.62 mm, Pitch 2.54 mm; Supplier 1: Digi-Key; Supplier Part Number 1: ADG201HSTQ-ND; Supplier 2: Newark; Supplier Part Number 2: 05F6169; Supplier 3: Mouser; Supplier Part Number 3: 584-ADG201HSTQ; Configuration: SPST; Packing: Tube; Mounting Technology: Through Hole; ComponentLink1Description: Manufacturer URL; ComponentLink1URL: http://www.analog.com/en/index.html; ComponentLink2Description: Datasheet; ComponentLink2URL: http://www.analog.com/static/imported-files/data_sheets/ADG201HS.pdf; ComponentLink3Description: Package Specification; ComponentLink3URL: http://www.analog.com/static/imported-files/packages/54083157002221Q_16.pdf
footprint ADI-Q-16 (DIP, 16-Leads, Body 21.34x6.73mm, Pitch 2.54mm)
pins: 1 IN1 (in), 2 D1, 3 S1, 4 VSS (power), 5 GND (power), 6 S4, 7 D4, 8 IN4 (in), 9 IN3 (in), 10 D3, 11 S3, 12 NC, 13 VDD (power), 14 S2, 15 D2, 16 IN2 (in)

## ADG202ABQ
designator U?
LC2MOS Quad SPST Switches, 60 Ohm Ron, 16-pin DIP (Q-16), Tube; Manufacturer: Analog Devices; PartNumber: ADG202ABQ; # Sw Functions: 4; Max Neg Supply: -15V; Max Pos Supply: +15V; Ron (ohms): 60; DatasheetVersion: Rev. A; PackageVersion: Aug-05; PackageReference: Q-16; PackageDescription: 16-Pin Ceramic Dual In-Line Package, Row spacing 7.62 mm, Pitch 2.54 mm; Supplier 1: Digi-Key; Supplier Part Number 1: ADG202ABQ-ND; Supplier 2: Newark; Supplier Part Number 2: 05F6170; Configuration: SPST; Packing: Tube; Mounting Technology: Through Hole; ComponentLink1Description: Manufacturer URL; ComponentLink1URL: http://www.analog.com/en/index.html; ComponentLink2Description: Datasheet; ComponentLink2URL: http://www.analog.com/static/imported-files/data_sheets/ADG201A_202A.pdf; ComponentLink3Description: Package Specification; ComponentLink3URL: http://www.analog.com/static/imported-files/packages/54083157002221Q_16.pdf
footprint ADI-Q-16 (DIP, 16-Leads, Body 21.34x6.73mm, Pitch 2.54mm)
pins: 1 IN1 (in), 2 D1, 3 S1, 4 VSS (power), 5 GND (power), 6 S4, 7 D4, 8 IN4 (in), 9 IN3 (in), 10 D3, 11 S3, 12 NC, 13 VDD (power), 14 S2, 15 D2, 16 IN2 (in)

## ADG202AKNZ
designator U?
LC2MOS Quad SPST Switches, 60 Ohm Ron, 16-pin DIP (N-16), Tube; Manufacturer: Analog Devices; PartNumber: ADG202AKNZ; # Sw Functions: 4; Max Neg Supply: -15V; Max Pos Supply: +15V; Ron (ohms): 60; DatasheetVersion: Rev. A; PackageVersion: 070706-A, 07/2006; PackageReference: N-16; PackageDescription: 16-Pin Plastic Dual In-Line Package, Row spacing 7.62 mm, Pitch 2.54 mm; Supplier 1: Digi-Key; Supplier Part Number 1: ADG202AKNZ-ND; Supplier 2: Farnell; Supplier Part Number 2: 1079382; Supplier 3: Newark; Supplier Part Number 3: 59K1179; Supplier 4: Mouser; Supplier Part Number 4: 584-ADG202AKNZ; Configuration: SPST; Packing: Tube; Mounting Technology: Through Hole; Code_JEDEC: MS-001; ComponentLink1Description: Manufacturer URL; ComponentLink1URL: http://www.analog.com/en/index.html; ComponentLink2Description: Datasheet; ComponentLink2URL: http://www.analog.com/static/imported-files/data_sheets/ADG201A_202A.pdf; ComponentLink3Description: Package Specification; ComponentLink3URL: http://www.analog.com/static/imported-files/packages/44768431550332N_16.pdf
footprint ADI-N-16 (DIP, 16-Leads, Body 20.07x6.6mm, Pitch 2.54mm)
pins: 1 IN1 (in), 2 D1, 3 S1, 4 VSS (power) "Most negative voltage supply", 5 GND (power), 6 S4, 7 D4, 8 IN4 (in), 9 IN3 (in), 10 D3, 11 S3, 12 NC, 13 VDD (power) "Most positive voltage supply", 14 S2, 15 D2, 16 IN2 (in)

## ADG202AKP-REEL
designator U?
LC2MOS Quad SPST Switches, 60 Ohm Ron, 20-pin PLCC (P-20A), Reel; Manufacturer: Analog Devices; PartNumber: ADG202AKP-REEL; # Sw Functions: 4; Max Neg Supply: -15V; Max Pos Supply: +15V; Ron (ohms): 60; DatasheetVersion: Rev. A; PackageVersion: Nov-02; PackageReference: P-20A; PackageDescription: 20-Pin Plastic Leaded Chip Carrier, Body 8.97 x 8.97 mm, Pitch 1.27 mm; Supplier 1: Mouser; Supplier Part Number 1: N/A; Configuration: SPST; Packing: Reel; Mounting Technology: Surface Mount; Code_JEDEC: MO-047AA; ComponentLink1Description: Manufacturer URL; ComponentLink1URL: http://www.analog.com/en/index.html; ComponentLink2Description: Datasheet; ComponentLink2URL: http://www.analog.com/static/imported-files/data_sheets/ADG201A_202A.pdf; ComponentLink3Description: Package Specification; ComponentLink3URL: http://www.analog.com/static/imported-files/packages/3121431516544404277643669223804694P20A.pdf
footprint ADI-P-20A_N (PLCC, 20-Leads, Body 8.965x8.965mm, Pitch 1.27mm, IPC Medium Density)
footprint ADI-P-20A_L (PLCC, 20-Leads, Body 8.965x8.965mm, Pitch 1.27mm, IPC High Density)
footprint ADI-P-20A_M (PLCC, 20-Leads, Body 8.965x8.965mm, Pitch 1.27mm, IPC Low Density)
pins: 1 NC "NO CONNECT", 2 IN1 (in), 3 D1, 4 S1, 5 VSS (power), 6 NC "NO CONNECT", 7 GND (power), 8 S4, 9 D4, 10 IN4 (in), 11 NC "NO CONNECT", 12 IN3 (in), 13 D3, 14 S3, 15 NC "NO CONNECT", 16 NC "NO CONNECT", 17 VDD (power), 18 S2, 19 D2, 20 IN2 (in)

## ADG202AKR
designator U?
LC2MOS Quad SPST Switches, 60 Ohm Ron, 16-pin SOIC (R-16), Tube; Manufacturer: Analog Devices; PartNumber: ADG202AKR; # Sw Functions: 4; Max Neg Supply: -15V; Max Pos Supply: +15V; Ron (ohms): 60; DatasheetVersion: Rev. A; PackageVersion: 060606-A, 06/2006; PackageReference: R-16; PackageDescription: 16-Pin Standard Small Outline Package, Body 9.9 x 3.9 mm, Pitch 1.27 mm; Supplier 1: Digi-Key; Supplier Part Number 1: ADG202AKR-ND; Supplier 2: Mouser; Supplier Part Number 2: 584-ADG202AKR; Configuration: SPST; Packing: Tube; Mounting Technology: Surface Mount; Code_JEDEC: MS-012-AC; ComponentLink1Description: Manufacturer URL; ComponentLink1URL: http://www.analog.com/en/index.html; ComponentLink2Description: Datasheet; ComponentLink2URL: http://www.analog.com/static/imported-files/data_sheets/ADG201A_202A.pdf; ComponentLink3Description: Package Specification; ComponentLink3URL: http://www.analog.com/static/imported-files/packages/PKG_PDF/SOIC_Narrow%20(R)/R_16.pdf
footprint ADI-R-16_N (SOIC, 16-Leads, Body 9.9x3.9mm, Pitch 1.27mm, IPC Medium Density)
footprint ADI-R-16_L (SOIC, 16-Leads, Body 9.9x3.9mm, Pitch 1.27mm, IPC High Density)
footprint ADI-R-16_M (SOIC, 16-Leads, Body 9.9x3.9mm, Pitch 1.27mm, IPC Low Density)
pins: 1 IN1 (in) "Logic Control Input.", 2 D1 "Drain Terminal. Can be an input or output.", 3 S1 "Source Terminal. Can be an input or output.", 4 VSS (power) "Most Negative Power Supply Potential.", 5 GND (power) "Ground (0 V) Reference.", 6 S4 "Source Terminal. Can be an input or output.", 7 D4 "Drain Terminal. Can be an input or output.", 8 IN4 (in) "Logic Control Input.", 9 IN3 (in) "Logic Control Input.", 10 D3 "Drain Terminal. Can be an input or output.", 11 S3 "Source Terminal. Can be an input or output.", 12 NC "No Connect.", 13 VDD (power) "Most Positive Power Supply Potential.", 14 S2 "Source Terminal. Can be an input or output.", 15 D2 "Drain Terminal. Can be an input or output.", 16 IN2 (in) "Logic Control Input."

## ADG202AKRZ
designator U?
LC2MOS Quad SPST Switches, 60 Ohm Ron, 16-pin SOIC (R-16), Tube; Manufacturer: Analog Devices; PartNumber: ADG202AKRZ; # Sw Functions: 4; Max Neg Supply: -15V; Max Pos Supply: +15V; Ron (ohms): 60; DatasheetVersion: Rev. A; PackageVersion: 060606-A, 06/2006; PackageReference: R-16; PackageDescription: 16-Pin Standard Small Outline Package, Body 9.9 x 3.9 mm, Pitch 1.27 mm; Supplier 1: Digi-Key; Supplier Part Number 1: ADG202AKRZ-ND; Supplier 2: Farnell; Supplier Part Number 2: 1319234; Supplier 3: Newark; Supplier Part Number 3: 19M8643; Supplier 4: Mouser; Supplier Part Number 4: 584-ADG202AKRZ; Configuration: SPST; Packing: Tube; Mounting Technology: Surface Mount; Code_JEDEC: MS-012-AC; ComponentLink1Description: Manufacturer URL; ComponentLink1URL: http://www.analog.com/en/index.html; ComponentLink2Description: Datasheet; ComponentLink2URL: http://www.analog.com/static/imported-files/data_sheets/ADG201A_202A.pdf; ComponentLink3Description: Package Specification; ComponentLink3URL: http://www.analog.com/static/imported-files/packages/PKG_PDF/SOIC_Narrow%20(R)/R_16.pdf
footprint ADI-R-16_N (SOIC, 16-Leads, Body 9.9x3.9mm, Pitch 1.27mm, IPC Medium Density)
footprint ADI-R-16_L (SOIC, 16-Leads, Body 9.9x3.9mm, Pitch 1.27mm, IPC High Density)
footprint ADI-R-16_M (SOIC, 16-Leads, Body 9.9x3.9mm, Pitch 1.27mm, IPC Low Density)
pins: 1 IN1 (in) "Logic Control Input.", 2 D1 "Drain Terminal. Can be an input or output.", 3 S1 "Source Terminal. Can be an input or output.", 4 VSS (power) "Most Negative Power Supply Potential.", 5 GND (power) "Ground (0 V) Reference.", 6 S4 "Source Terminal. Can be an input or output.", 7 D4 "Drain Terminal. Can be an input or output.", 8 IN4 (in) "Logic Control Input.", 9 IN3 (in) "Logic Control Input.", 10 D3 "Drain Terminal. Can be an input or output.", 11 S3 "Source Terminal. Can be an input or output.", 12 NC "No Connect.", 13 VDD (power) "Most Positive Power Supply Potential.", 14 S2 "Source Terminal. Can be an input or output.", 15 D2 "Drain Terminal. Can be an input or output.", 16 IN2 (in) "Logic Control Input."

## ADG202AKRZ-REEL
designator U?
LC2MOS Quad SPST Switches, 60 Ohm Ron, 16-pin SOIC (R-16), Reel; Manufacturer: Analog Devices; PartNumber: ADG202AKRZ-REEL; # Sw Functions: 4; Max Neg Supply: -15V; Max Pos Supply: +15V; Ron (ohms): 60; DatasheetVersion: Rev. A; PackageVersion: 060606-A, 06/2006; PackageReference: R-16; PackageDescription: 16-Pin Standard Small Outline Package, Body 9.9 x 3.9 mm, Pitch 1.27 mm; Supplier 1: Digi-Key; Supplier Part Number 1: ADG202AKRZ-REEL-ND; Supplier 2: Newark; Supplier Part Number 2: 59K1182; Supplier 3: Mouser; Supplier Part Number 3: 584-ADG202AKRZ-R; Configuration: SPST; Packing: Reel; Mounting Technology: Surface Mount; Code_JEDEC: MS-012-AC; ComponentLink1Description: Manufacturer URL; ComponentLink1URL: http://www.analog.com/en/index.html; ComponentLink2Description: Datasheet; ComponentLink2URL: http://www.analog.com/static/imported-files/data_sheets/ADG201A_202A.pdf; ComponentLink3Description: Package Specification; ComponentLink3URL: http://www.analog.com/static/imported-files/packages/PKG_PDF/SOIC_Narrow%20(R)/R_16.pdf
footprint ADI-R-16_N (SOIC, 16-Leads, Body 9.9x3.9mm, Pitch 1.27mm, IPC Medium Density)
footprint ADI-R-16_L (SOIC, 16-Leads, Body 9.9x3.9mm, Pitch 1.27mm, IPC High Density)
footprint ADI-R-16_M (SOIC, 16-Leads, Body 9.9x3.9mm, Pitch 1.27mm, IPC Low Density)
pins: 1 IN1 (in) "Logic Control Input.", 2 D1 "Drain Terminal. Can be an input or output.", 3 S1 "Source Terminal. Can be an input or output.", 4 VSS (power) "Most Negative Power Supply Potential.", 5 GND (power) "Ground (0 V) Reference.", 6 S4 "Source Terminal. Can be an input or output.", 7 D4 "Drain Terminal. Can be an input or output.", 8 IN4 (in) "Logic Control Input.", 9 IN3 (in) "Logic Control Input.", 10 D3 "Drain Terminal. Can be an input or output.", 11 S3 "Source Terminal. Can be an input or output.", 12 NC "No Connect.", 13 VDD (power) "Most Positive Power Supply Potential.", 14 S2 "Source Terminal. Can be an input or output.", 15 D2 "Drain Terminal. Can be an input or output.", 16 IN2 (in) "Logic Control Input."

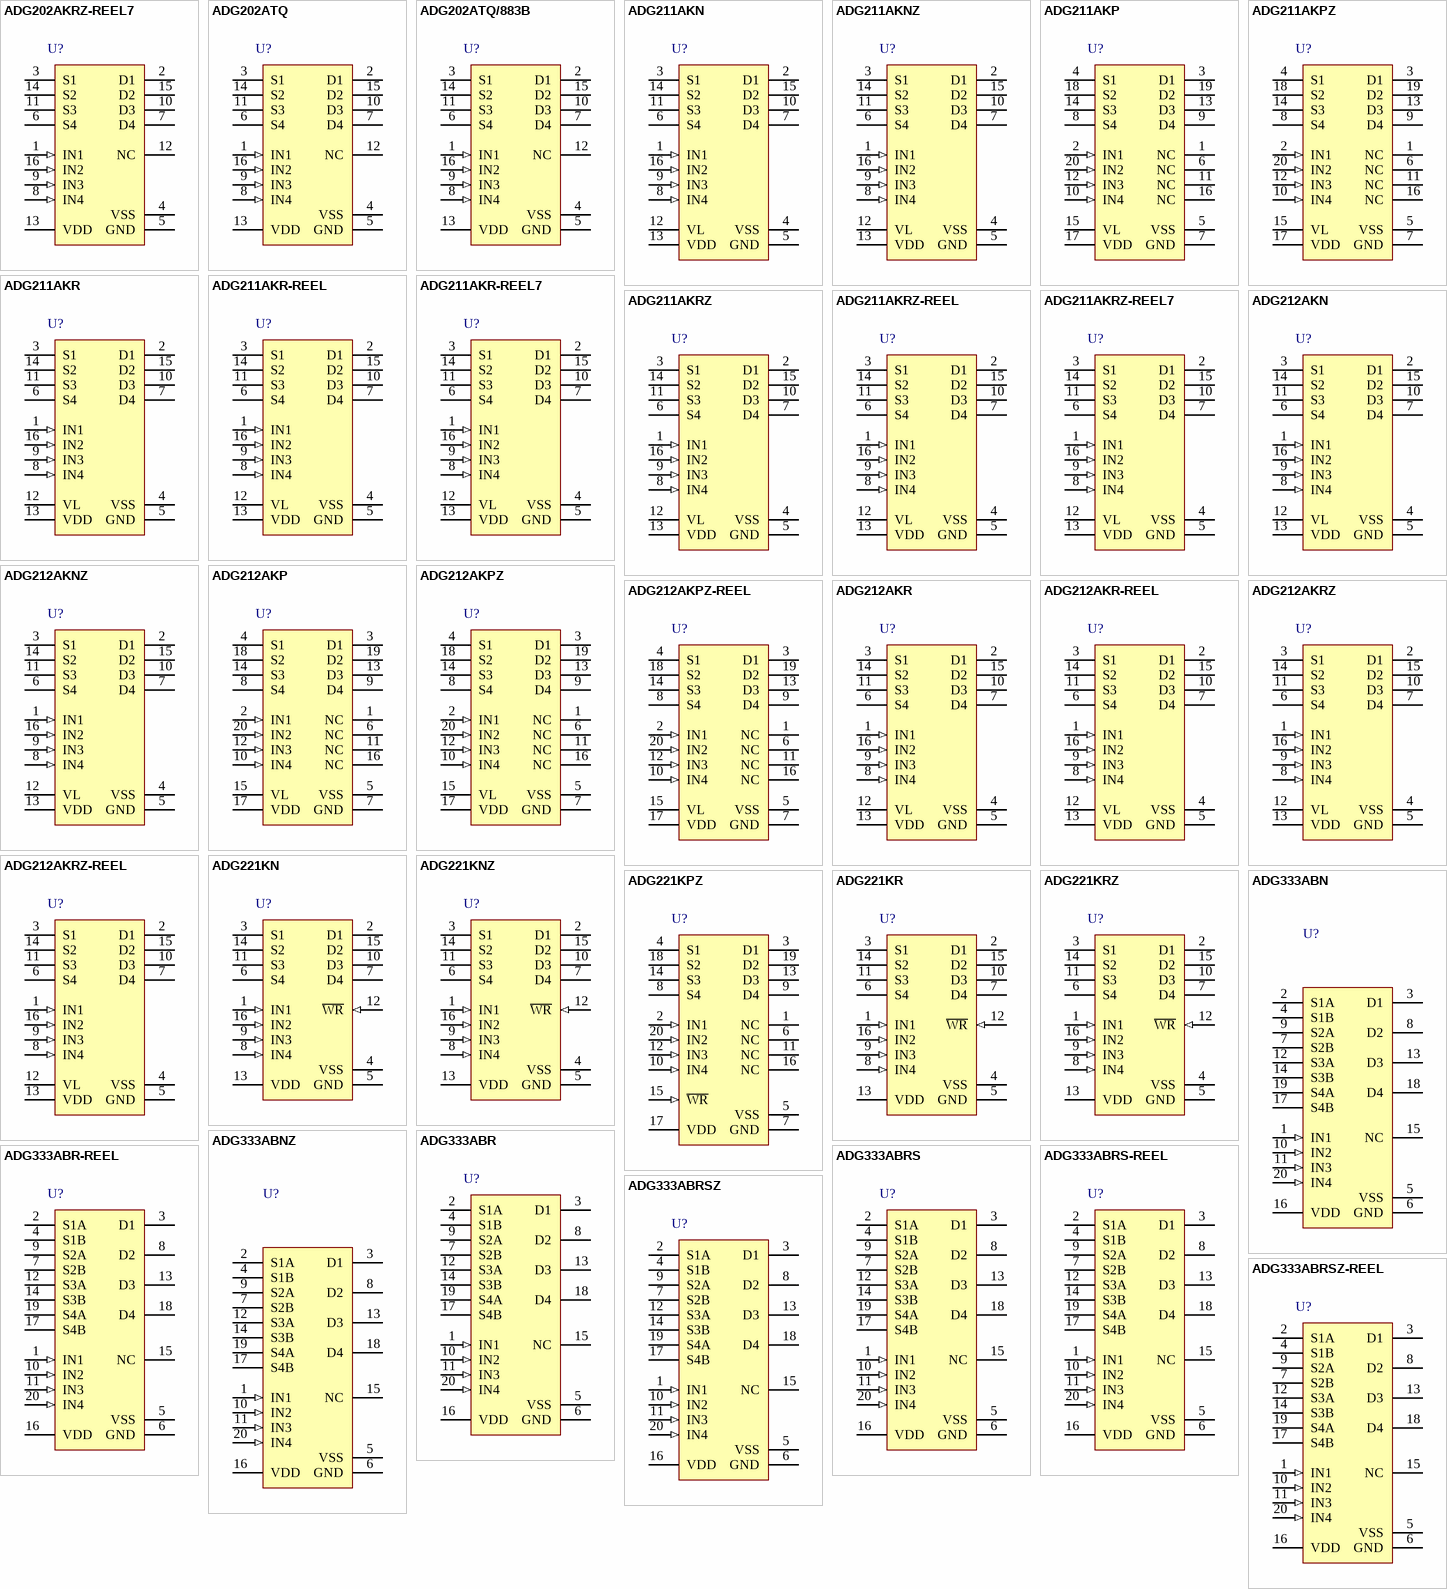
[diagram p2: symbols ADG202AKRZ-REEL7 to ADG333ABRSZ-REEL]